# EAGLE library part ADC121S021 (library mille-feuille)
Single-Channel, 50- to 200-ksps, 12-Bit A/D Converter
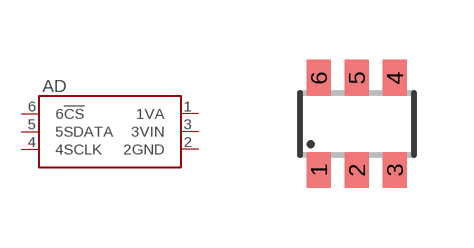
[diagram p8: symbol with the pads of SOT23-6; footprint SOT23-6]

Designator prefix AD

## ADC121S021  [SOT23-6]
1  1VA
2  2GND
3  3VIN
4  4SCLK
5  5SDATA
6  6!CS

## Footprint SOT23-6 (pad centres in mm)
smd 0.6 x 0.9: 1 -0.95,-1.15; 2 0,-1.15; 3 0.95,-1.15; 4 0.95,1.15; 5 0,1.15; 6 -0.95,1.15